# Altium schematic symbol library AMT_MAG.SchLib: 7 symbols
Pins are listed as number, name and electrical type; pins without a type are passive.

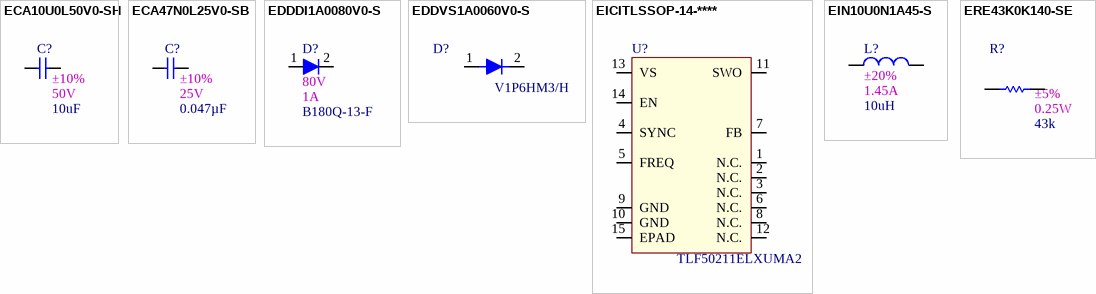
[diagram p0: symbols ECA10U0L50V0-SH to ERE43K0K140-SE]

## ECA10U0L50V0-SH
designator C?, comment value 10uF  2nd Auxiliary Field: ±10%  1st Auxiliary Field: 50V  (hidden comment: CAP CER 10UF 50V X7R 1210)
Manufacturer: Taiyo Yuden; Vendor Part Number: 587-6026-1-ND; Manufacturer Part Number: UMJ325KB7106KMHP; Internal Part Number: ECA10U0L50V0-SH; Vendor Name: Digi-Key; 3rd Auxiliary Field: RoHS Compliant; 4th Auxiliary Field: AEC-Q200; Component Height (mm): 2.80mm; Temp Co: -55°C ~ 125°C; Part Type: CAP CER 10UF 50V X7R 1210
footprint SMDC1210 (GRM32ER71A476KE15L, CAP CER 47UF 10V X7R 1210)
pins: 1, 2

## ECA47N0L25V0-SB
designator C?, comment value 0.047µF  2nd Auxiliary Field: ±10%  1st Auxiliary Field: 25V  (hidden comment: CAP CER 0.047UF 25V X7R 0402)
Manufacturer: Murata Electronics; Vendor Part Number: 490-4760-1-ND; Manufacturer Part Number: GCM155R71E473KA55D; Internal Part Number: ECA47N0L25V0-SB; Vendor Name: Digi-Key; 3rd Auxiliary Field: RoHS Compliant; Component Height (mm): 0.55mm; Temp Co: -55°C ~ 125°C; Part Type: CAP CER 0.047UF 25V X7R 0402; 4th Auxiliary Field: *
footprint SMDC0402 (Footprint not found)
pins: 1, 2

## EDDDI1A0080V0-S
designator D?, comment value B180Q-13-F  1st Auxiliary Field: 80V  2nd Auxiliary Field: 1A  (hidden comment: DIODE SCHOTTKY 80V 1A SMA)
Manufacturer: Diodes Incorporated; Internal Part Number: EDDDI1A0080V0-S; Vendor Part Number: B180Q-13-FDICT-ND; 3rd Auxiliary Field: RoHS Compliant; Temp Co: -65°C ~ 155°C; 4th Auxiliary Field: AEC-Q101; Vendor Name: Digi-Key; Component Height (mm): 2.40mm; Manufacturer Part Number: B180Q-13-F; Part Type: DIODE SCHOTTKY 80V 1A SMA
footprint DO460X292X240-2N (B350A-13-F, DIODE SCHOTTKY 50V 3A SMA)
pins: 1 Anode, 2 Cathode

## EDDVS1A0060V0-S
designator D?, comment value V1P6HM3/H  (hidden comment: DIODE SCHOTTKY 60V 1A MICROSMP)
Manufacturer: Vishay Semiconductor Diodes Division; Internal Part Number: EDDVS1A0060V0-S; Vendor Part Number: V1P6HM3/HGICT-ND; 3rd Auxiliary Field: RoHS Compliant; Temp Co: -40°C ~ 150°C; 4th Auxiliary Field: AEC-Q101; Vendor Name: Digi-Key; Component Height (mm): 0.73mm; Manufacturer Part Number: V1P6HM3/H; Part Type: DIODE SCHOTTKY 60V 1A MICROSMP; 1st Auxiliary Field: 60V; 2nd Auxiliary Field: 1A
footprint DIOM2213X07N (Molded Diode, 2-Leads, Body 2.20x1.30mm, IPC Medium Density)
pins: 1 Cathode, 2 Anode

## EICITLSSOP-14-****
designator U?, comment value TLF50211ELXUMA2  (hidden comment: IC REG DC/DC CONVERTER)
Manufacturer: Infineon Technologies; Internal Part Number: EICITLSSOP-14-****; Vendor Part Number: TLF50211ELXUMA2CT-ND; Component Height (mm): 1.7mm; 3rd Auxiliary Field: RoHS Compliant; 4th Auxiliary Field: AEC-Q100; Vendor Name: Digi-Key; Temp Co: -40°C ~ 150°C (TJ); 2nd Auxiliary Field: 500mA; 1st Auxiliary Field: 45V; Manufacturer Part Number: TLF50211ELXUMA2; Part Type: IC REG DC/DC CONVERTER
footprint SOP65P600X170_HS-15N (SOP, 14-Leads, Body 4.90x3.90mm, Pitch 0.65mm, Thermal Pad 3.00x2.65mm, IPC Medium Density)
pins: 1 N.C., 2 N.C., 3 N.C., 4 SYNC, 5 FREQ, 6 N.C., 7 FB, 8 N.C., 9 GND, 10 GND, 11 SWO, 12 N.C., 13 VS, 14 EN, 15 EPAD

## EIN10U0N1A45-S
designator L?, comment value 10uH  2nd Auxiliary Field: ±20%  1st Auxiliary Field: 1.45A  (hidden comment: FIXED IND 10UH 1.45A 144 MOHM)
Manufacturer: Taiyo Yuden; Vendor Part Number: 587-3594-1-ND; Manufacturer Part Number: NRS5020T100MMGJV; Internal Part Number: EIN10U0N1A45-S; Vendor Name: Digi-Key; 3rd Auxiliary Field: RoHS Compliant; 4th Auxiliary Field: AEC-Q200; Component Height (mm): 2.00mm; Temp Co: -40°C ~ 125°C; Part Type: FIXED IND 10UH 1.45A 144 MOHM
footprint IND_NRS5030T3R3MMGJ (NRS5030T3R3MMGJ, FIXED IND 3.3UH 3A 30 MOHM SMD)
pins: 1, 2

## ERE43K0K140-SE
designator R?, comment value 43k  2nd Auxiliary Field: ±5%  1st Auxiliary Field: 0.25W  (hidden comment: RES 43K OHM 5% 1/4W 0805)
Manufacturer: KOA Speer Electronics, Inc.; Vendor Part Number: 2019-RK73B2ATTD433JCT-ND; Manufacturer Part Number: RK73B2ATTD433J; Internal Part Number: ERE43K0K140-SE; Vendor Name: Digi-Key; 3rd Auxiliary Field: RoHS Compliant; 4th Auxiliary Field: AEC-Q200; Component Height (mm): 0.60mm; Temp Co: -55°C ~ 155°C; Part Type: RES 43K OHM 5% 1/4W 0805
footprint SMDR0805 (Footprint not found)
pins: 1, 2